# Altium footprint library IC_DIP.PCBLIB: 26 footprints (part 1 of 2)
Each footprint in its own frame and in the unit in brackets; x right, y up, seen from the top. Pads: shape width x height; smd on the part's side, far side on the other; paste and mask are expansions set on the pad; w line width, h text height; cw(c..) or ccw(c..) is an arc to the next point about the centre after c.
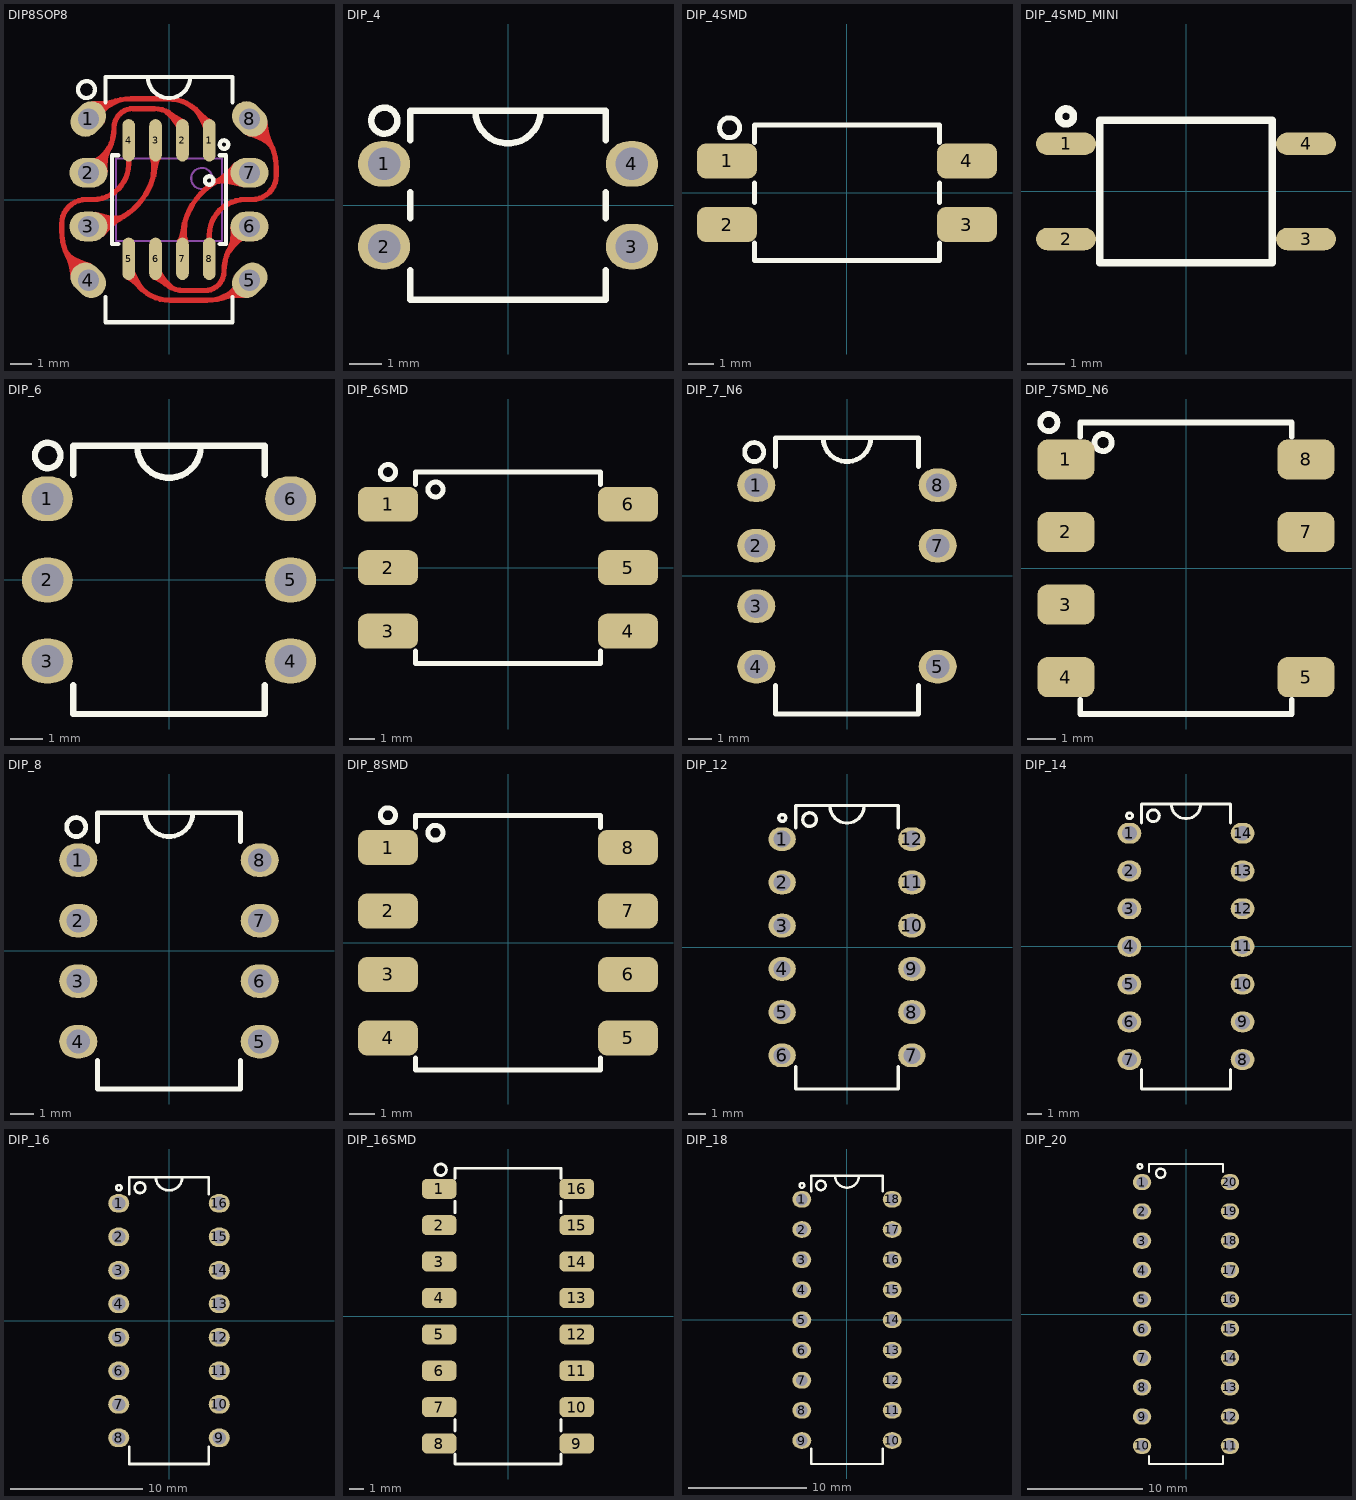
[diagram p0: the footprints below, top view; thin cyan lines are the x and y axes]

## DIP8SOP8 [mm] "DIP, 8-Leads, 0.300\" lead span , 0.100\" lead pitch"
height 5.334
pads (16):
  oval 1.4x1.8 / inner round 1.4 / far side oval 1.4x1.8 hole 1 rot 135: 1(-3.81,3.81) 5(3.81,-3.81)
  oval 0.6x2 smd: 1(1.905,2.8) 2(0.635,2.8) 3(-0.635,2.8) 4(-1.905,2.8) 5(-1.905,-2.8) 6(-0.635,-2.8) 7(0.635,-2.8) 8(1.905,-2.8)
  oval 1.8x1.4 / inner round 1.4 / far side oval 1.8x1.4 hole 1: 2(-3.81,1.27) 3(-3.81,-1.27) 6(3.81,-1.27) 7(3.81,1.27)
  oval 1.4x1.8 / inner round 1.4 / far side oval 1.4x1.8 hole 1 rot 45: 4(-3.81,-3.81) 8(3.81,3.81)
TopLayer:
  region: -2.357,4.571 -2.545,4.485 -2.708,4.397 -2.843,4.306 -2.953,4.213 -3.035,4.118 -3.092,4.021 -3.122,3.921 -3.126,3.82 -3.103,3.716 -3.054,3.61 -3.659,4.652 -3.528,4.641 -3.278,4.636 -3.159,4.642 -2.932,4.669 -2.825,4.69 -2.721,4.717 -2.621,4.749 -2.524,4.786
  region: -2.699,2.394 -2.75,2.31 -2.794,2.22 -2.831,2.123 -2.861,2.02 -2.885,1.911 -2.902,1.796 -2.911,1.674 -2.914,1.545 -2.9,1.27 -4.04,1.963 -3.934,1.911 -3.826,1.883 -3.716,1.879 -3.605,1.9 -3.493,1.944 -3.379,2.014 -3.264,2.107 -3.148,2.225 -3.03,2.367 -2.91,2.533
  region: -2.209,-0.98 -2.288,-1.018 -2.369,-1.065 -2.453,-1.121 -2.539,-1.186 -2.718,-1.343 -2.811,-1.435 -3.105,-1.765 -3.463,-0.583 -3.29,-0.633 -2.842,-0.736 -2.716,-0.754 -2.601,-0.764 -2.499,-0.765 -2.408,-0.759 -2.329,-0.745 -2.261,-0.722
  region: -4.742,-2.464 -4.697,-2.522 -4.638,-2.579 -4.566,-2.636 -4.479,-2.693 -4.379,-2.749 -4.266,-2.805 -3.997,-2.914 -3.673,-3.022 -4.628,-3.805 -4.646,-3.647 -4.715,-3.228 -4.744,-3.108 -4.811,-2.895 -4.848,-2.803 -4.889,-2.721 -4.932,-2.648
  region: 4.742,2.464 4.697,2.522 4.638,2.579 4.566,2.636 4.479,2.693 4.379,2.749 4.266,2.805 3.997,2.914 3.673,3.022 4.628,3.805 4.646,3.647 4.715,3.228 4.744,3.108 4.811,2.895 4.848,2.803 4.889,2.721 4.932,2.648
  region: 2.209,0.98 2.288,1.018 2.369,1.065 2.453,1.121 2.539,1.186 2.718,1.343 2.811,1.435 3.105,1.765 3.463,0.583 3.29,0.633 2.842,0.736 2.716,0.754 2.601,0.764 2.499,0.765 2.408,0.759 2.329,0.745 2.261,0.722
  region: 2.699,-2.394 2.75,-2.31 2.794,-2.22 2.831,-2.123 2.861,-2.02 2.885,-1.911 2.902,-1.796 2.911,-1.674 2.914,-1.545 2.9,-1.27 4.04,-1.963 3.934,-1.911 3.826,-1.883 3.716,-1.879 3.605,-1.9 3.493,-1.944 3.379,-2.014 3.264,-2.107 3.148,-2.225 3.03,-2.367 2.91,-2.533
  region: 2.357,-4.571 2.545,-4.485 2.708,-4.397 2.843,-4.306 2.953,-4.213 3.035,-4.118 3.092,-4.021 3.122,-3.921 3.126,-3.82 3.103,-3.716 3.054,-3.61 3.659,-4.652 3.528,-4.641 3.278,-4.636 3.159,-4.642 2.932,-4.669 2.825,-4.69 2.721,-4.717 2.621,-4.749 2.524,-4.786
  region: 1.329,4.36 1.399,4.274 1.542,4.119 1.614,4.05 1.759,3.93 1.833,3.878 1.906,3.833 1.98,3.793 2.055,3.759 1.609,2.601 1.651,2.739 1.675,2.881 1.679,3.027 1.665,3.178 1.631,3.332 1.578,3.49 1.505,3.653 1.414,3.819 1.303,3.989 1.173,4.164
  region: -0.037,4.266 0.039,4.203 0.276,4.03 0.357,3.978 0.61,3.839 0.697,3.798 0.785,3.759 0.339,2.794 0.382,2.912 0.403,3.031 0.403,3.153 0.381,3.277 0.338,3.404 0.273,3.532 0.186,3.663 0.078,3.796 -0.052,3.931 -0.203,4.068
  region: -0.871,1.091 -0.855,1.206 -0.838,1.421 -0.836,1.521 -0.847,1.708 -0.859,1.794 -0.876,1.875 -0.898,1.951 -0.924,2.022 -0.376,1.95 -0.402,1.911 -0.427,1.861 -0.452,1.8 -0.477,1.73 -0.524,1.557 -0.57,1.344 -0.613,1.089
  region: 0.871,-1.091 0.855,-1.206 0.838,-1.421 0.836,-1.521 0.847,-1.708 0.859,-1.794 0.876,-1.875 0.898,-1.951 0.924,-2.022 0.376,-1.95 0.402,-1.911 0.427,-1.861 0.452,-1.8 0.477,-1.73 0.524,-1.557 0.57,-1.344 0.613,-1.089
  region: 0.037,-4.266 -0.039,-4.203 -0.276,-4.03 -0.357,-3.978 -0.61,-3.839 -0.697,-3.798 -0.785,-3.759 -0.339,-2.794 -0.382,-2.912 -0.403,-3.031 -0.403,-3.153 -0.381,-3.277 -0.338,-3.404 -0.273,-3.532 -0.186,-3.663 -0.078,-3.796 0.052,-3.931 0.203,-4.068
  region: -1.329,-4.36 -1.399,-4.274 -1.542,-4.119 -1.614,-4.05 -1.759,-3.93 -1.833,-3.878 -1.906,-3.833 -1.98,-3.793 -2.055,-3.759 -1.609,-2.601 -1.651,-2.739 -1.675,-2.881 -1.679,-3.027 -1.665,-3.178 -1.631,-3.332 -1.578,-3.49 -1.505,-3.653 -1.414,-3.819 -1.303,-3.989 -1.173,-4.164
  lines w0.25: -3.81,-1.27 ccw(c-3.81,1.905) -0.635,1.905 -0.635,2.8 ; -3.8,-3.81 -4.331,-3.279 cw(c-2.535,-1.483) -5.075,-1.483 -5.075,-1.149 cw(c-3.926,-1.149) -3.926,0 -3.598,0 ccw(c-3.598,1.693) -1.905,1.693 -1.905,2.8 ; -3.8,1.27 -3.257,1.813 ccw(c-4.845,3.4) -2.6,3.4 cw(c-1.7,3.4) -1.7,4.3 -0.7,4.3 cw(c-0.7,2.965) 0.635,2.965 0.635,2.8 ; -3.8,3.81 -3.59,4.02 cw(c-1.8,2.231) -1.8,4.762 -0.057,4.762 cw(c-0.057,2.8) 1.905,2.8 ; -1.905,-2.8 ccw(c0.057,-2.8) 0.057,-4.762 1.8,-4.762 ccw(c1.8,-2.231) 3.59,-4.02 3.8,-3.81 ; -0.635,-2.8 -0.635,-2.965 ccw(c0.7,-2.965) 0.7,-4.3 1.7,-4.3 ccw(c1.7,-3.4) 2.6,-3.4 cw(c4.845,-3.4) 3.257,-1.813 3.8,-1.27 ; 0.635,-2.8 0.635,-1.905 ; 1.905,-2.8 1.905,-1.693 cw(c3.598,-1.693) 3.598,0 3.926,0 ; 3.8,3.81 4.331,3.279 cw(c2.535,1.483) 5.075,1.483 5.075,1.149 cw(c3.926,1.149) 3.926,0 ; 3.81,1.27 ccw(c3.81,-1.905) 0.635,-1.905 ; 0.635,-1.905 0.635,-1.905 ; 3.926,0 3.926,0
TopOverlay:
  circle w0.2: c-3.9,5.2 r0.4
  circle w0.2: c1.9,0.9 r0.2
  circle w0.2: c2.6,2.6 r0.2
  lines w0.2: -3,-4.6 -3,-5.8 3,-5.8 3,-4.6 ; -3,4.6 -3,5.8 3,5.8 3,4.6 ; -2.4,-2.1 -2.7,-2.1 -2.7,2.1 -2.4,2.1 ; -1,5.8 ccw(c0,5.8) 1,5.8 ; 2.4,-2.1 2.7,-2.1 2.7,2.1 2.4,2.1
Mechanical13:
  circle w0.1: c1.55,1 r0.5
  lines w0.1: -2.5,-1.95 2.5,-1.95 2.5,1.95 -2.5,1.95 -2.5,-1.95
3D body "CircuitWorks-DIP8.step": height 4.19, standoff -2.67, extent -3.937,-5.7 3.937,5.73
3D body "User Library-so8-3.step": height 1.7, standoff 0, extent -2.45,-3 2.45,3

## DIP_4 [mm] "BRIDGE DIODE, DIP, pitch 2.54mm, 300mil Width"
pads (4):
  oval 1.6x1.4 / inner round 1.4 / far side oval 2.2x1.4 hole 1: 1(-3.81,1.27) 2(-3.81,-1.27) 3(3.81,-1.27) 4(3.81,1.27)
TopOverlay:
  circle w0.2: c-3.8,2.6 r0.4
  lines w0.2: -3,-2 -3,-2.9 3,-2.9 3,-2 ; -3,-0.4 -3,0.4 ; -3,2 -3,2.9 3,2.9 3,2 ; -1,2.9 ccw(c0,2.9) 1,2.9 ; 3,-0.4 3,0.4
3D body "CircuitWorks-DIP4.step": height 4.31, standoff -3.28, extent -4,-2.77 4,2.77

## DIP_4SMD [mm] "DIP4, pitch 2.54mm, 300mil Width SMD"
pads (4):
  rrect50% 2.4x1.4 smd: 1(-4.8,1.27) 2(-4.8,-1.27) 3(4.8,-1.27) 4(4.8,1.27)
TopOverlay:
  circle w0.2: c-4.7,2.6 r0.4
  lines w0.2: -3.7,-2 -3.7,-2.7 3.7,-2.7 3.7,-2 ; -3.7,-0.4 -3.7,0.4 ; -3.7,2 -3.7,2.7 3.7,2.7 3.7,2 ; 3.7,-0.4 3.7,0.4
3D body "User Library-FOD817.step": height 4.6, standoff 0, extent -5.23,-2.55 5.23,2.55

## DIP_4SMD_MINI [mm] "SMD MINI FLAT, HCPL-181, pitch:2.54mm, 4.4x3.6mm"
height 3
pads (4):
  oval 1.6x0.6 smd: 1(-3.2,1.27) 2(-3.2,-1.27) 3(3.2,-1.27) 4(3.2,1.27)
TopOverlay:
  circle w0.2: c-3.2,2 r0.2
  lines w0.2: -2.3,-1.9 2.3,-1.9 2.3,1.9 -2.3,1.9 -2.3,-1.9
3D body "User Library-HCPL-181-1.STEP": height 2.1, standoff 0, extent -3.5,-1.8 3.5,1.8

## DIP_6 [mm] "DIP, pitch 2.54mm, 300mil Width"
pads (6):
  oval 1.6x1.4 / inner round 1.4 / far side oval 2.2x1.4 hole 1: 1(-3.81,2.54) 2(-3.81,0) 3(-3.81,-2.54) 4(3.81,-2.54) 5(3.81,0) 6(3.81,2.54)
TopOverlay:
  circle w0.2: c-3.8,3.9 r0.4
  lines w0.2: -3,-3.3 -3,-4.2 3,-4.2 3,-3.3 ; -3,3.3 -3,4.2 3,4.2 3,3.3 ; -1,4.2 ccw(c0,4.2) 1,4.2
3D body "CircuitWorks-DIP6.step": height 4.31, standoff -3.28, extent -4,-4.04 4,4.04

## DIP_6SMD [mm] "DIP6 SMD Package"
pads (6):
  rrect50% 2.4x1.4 smd: 1(-4.8,2.54) 2(-4.8,0) 3(-4.8,-2.54) 4(4.8,-2.54) 5(4.8,0) 6(4.8,2.54)
TopOverlay:
  circle w0.2: c-4.8,3.83 r0.3
  circle w0.2: c-2.9,3.13 r0.3
  lines w0.2: -3.7,-3.33 -3.7,-3.83 3.7,-3.83 3.7,-3.33 ; -3.7,3.33 -3.7,3.83 3.7,3.83 3.7,3.33
3D body "User Library-N06C.step": height 3.82, standoff 0, extent -4.94,-3.56 4.94,3.56

## DIP_7_N6 [mm] "DIP, pitch 2.54mm, without pin 6"
pads (7):
  oval 1.6x1.4 / inner round 1.4 / far side oval 2.2x1.4 hole 1: 1(-3.81,3.81) 2(-3.81,1.27) 3(-3.81,-1.27) 4(-3.81,-3.81) 5(3.81,-3.81) 7(3.81,1.27) 8(3.81,3.81)
TopOverlay:
  circle w0.2: c-3.9,5.2 r0.4
  lines w0.2: -3,-4.6 -3,-5.8 3,-5.8 3,-4.6 ; -3,4.6 -3,5.8 3,5.8 3,4.6 ; -1,5.8 ccw(c0,5.8) 1,5.8
3D body "CircuitWorks-DIP8_without6.step": height 4.19, standoff -2.67, extent -3.937,-5.7 3.937,5.73

## DIP_7SMD_N6 [mm] "DIP8 SMD Package, without pin 6"
pads (7):
  rrect50% 2x1.4 smd: 1(-4.2,3.81) 2(-4.2,1.27) 3(-4.2,-1.27) 4(-4.2,-3.81) 5(4.2,-3.81) 7(4.2,1.27) 8(4.2,3.81)
TopOverlay:
  circle w0.2: c-2.9,4.4 r0.3
  circle w0.2: c-4.8,5.1 r0.3
  lines w0.2: -3.7,-4.6 -3.7,-5.1 3.7,-5.1 3.7,-4.6 ; -3.7,4.6 -3.7,5.1 3.7,5.1 3.7,4.6
3D body "pdip7-smd_ncp101x.STEP": height 3.63, standoff 0, extent -4.826,-4.753 4.826,4.752

## DIP_8 [mm] "DIP, pitch 2.54mm, 300mil Width"
pads (8):
  oval 1.6x1.4 / inner round 1.4 / far side oval 2.2x1.4 hole 1: 1(-3.81,3.81) 2(-3.81,1.27) 3(-3.81,-1.27) 4(-3.81,-3.81) 5(3.81,-3.81) 6(3.81,-1.27) 7(3.81,1.27) 8(3.81,3.81)
TopOverlay:
  circle w0.2: c-3.9,5.2 r0.4
  lines w0.2: -3,-4.6 -3,-5.8 3,-5.8 3,-4.6 ; -3,4.6 -3,5.8 3,5.8 3,4.6 ; -1,5.8 ccw(c0,5.8) 1,5.8
3D body "CircuitWorks-DIP8.step": height 4.19, standoff -2.67, extent -3.937,-5.7 3.937,5.73

## DIP_8SMD [mm] "DIP8 SMD Package"
pads (8):
  rrect50% 2.4x1.4 smd: 1(-4.8,3.81) 2(-4.8,1.27) 3(-4.8,-1.27) 4(-4.8,-3.81) 5(4.8,-3.81) 6(4.8,-1.27) 7(4.8,1.27) 8(4.8,3.81)
TopOverlay:
  circle w0.2: c-4.8,5.1 r0.3
  circle w0.2: c-2.9,4.4 r0.3
  lines w0.2: -3.7,-4.6 -3.7,-5.1 3.7,-5.1 3.7,-4.6 ; -3.7,4.6 -3.7,5.1 3.7,5.1 3.7,4.6
3D body "SW3dPS-pdip8-smd.STEP": height 5.08, standoff 0, extent -5.15,-4.955 5.15,4.955

## DIP_12 [mm] "DIP, pitch 2.54mm, 300mil Width"
pads (12):
  oval 1.6x1.4 / inner round 1.4 / far side oval 2.2x1.4 hole 1: 1(-3.81,6.35) 2(-3.81,3.81) 3(-3.81,1.27) 4(-3.81,-1.27) 5(-3.81,-3.81) 6(-3.81,-6.35) 7(3.81,-6.35) 8(3.81,-3.81) 9(3.81,-1.27) 10(3.81,1.27) 11(3.81,3.81) 12(3.81,6.35)
TopOverlay:
  circle w0.2: c-2.2,7.5 r0.4
  circle w0.2: c-3.8,7.6 r0.2
  lines w0.2: -3,-7.03 -3,-8.33 3,-8.33 3,-7.03 ; -3,7.03 -3,8.33 3,8.33 3,7.03 ; -1,8.3 ccw(c0,8.3) 1,8.3

## DIP_14 [mm] "DIP, pitch 2.54mm, 300mil Width"
pads (14):
  oval 1.6x1.4 / inner round 1.4 / far side oval 2.2x1.4 hole 1: 1(-3.81,7.62) 2(-3.81,5.08) 3(-3.81,2.54) 4(-3.81,0) 5(-3.81,-2.54) 6(-3.81,-5.08) 7(-3.81,-7.62) 8(3.81,-7.62) 9(3.81,-5.08) 10(3.81,-2.54) 11(3.81,0) 12(3.81,2.54) 13(3.81,5.08) 14(3.81,7.62)
TopOverlay:
  circle w0.2: c-3.8,8.8 r0.2
  circle w0.2: c-2.2,8.8 r0.4
  lines w0.2: -3,-8.3 -3,-9.6 3,-9.6 3,-8.3 ; -3,8.3 -3,9.6 3,9.6 3,8.3 ; -1,9.6 ccw(c0,9.6) 1,9.6
3D body "CircuitWorks-DIP-14.step": height 3.81, standoff -3.17, extent -4,-9.525 4,9.525

## DIP_16 [mm] "DIP, pitch 2.54mm, 300mil Width"
pads (16):
  oval 1.6x1.4 / inner round 1.4 / far side oval 2.2x1.4 hole 1: 1(-3.81,8.89) 2(-3.81,6.35) 3(-3.81,3.81) 4(-3.81,1.27) 5(-3.81,-1.27) 6(-3.81,-3.81) 7(-3.81,-6.35) 8(-3.81,-8.89) 9(3.81,-8.89) 10(3.81,-6.35) 11(3.81,-3.81) 12(3.81,-1.27) 13(3.81,1.27) 14(3.81,3.81) 15(3.81,6.35) 16(3.81,8.89)
TopOverlay:
  circle w0.2: c-3.8,10.07 r0.2
  circle w0.2: c-2.2,10.07 r0.4
  lines w0.2: -3,-9.57 -3,-10.87 3,-10.87 3,-9.57 ; -3,9.57 -3,10.87 3,10.87 3,9.57 ; -1,10.87 ccw(c0,10.87) 1,10.87
3D body "CircuitWorks-DIP 16 IC.step": height 5.1, standoff -3.3, extent -3.935,-10 3.935,10

## DIP_16SMD [mm] "DIP4, pitch 2.54mm, 300mil Width SMD"
pads (16):
  rrect50% 2.4x1.4 smd: 1(-4.8,8.89) 2(-4.8,6.35) 3(-4.8,3.81) 4(-4.8,1.27) 5(-4.8,-1.27) 6(-4.8,-3.81) 7(-4.8,-6.35) 8(-4.8,-8.89) 9(4.8,-8.89) 10(4.8,-6.35) 11(4.8,-3.81) 12(4.8,-1.27) 13(4.8,1.27) 14(4.8,3.81) 15(4.8,6.35) 16(4.8,8.89)
TopOverlay:
  circle w0.2: c-4.7,10.22 r0.4
  lines w0.2: -3.7,-9.62 -3.7,-10.32 3.7,-10.32 3.7,-9.62 ; -3.7,-8.02 -3.7,-7.22 ; -3.7,7.22 -3.7,8.02 ; -3.7,9.62 -3.7,10.32 3.7,10.32 3.7,9.62 ; 3.7,-8.02 3.7,-7.22 ; 3.7,7.22 3.7,8.02
3D body "User Library-FOD817.step": height 4.6, standoff 0, extent -5.23,5.07 5.23,10.17
3D body "User Library-FOD817.step": height 4.6, standoff 0, extent -5.23,-0.01 5.23,5.09
3D body "User Library-FOD817.step": height 4.6, standoff 0, extent -5.23,-5.09 5.23,0.01
3D body "User Library-FOD817.step": height 4.6, standoff 0, extent -5.23,-10.17 5.23,-5.07

## DIP_18 [mm] "DIP, pitch 2.54mm, 300mil Width"
pads (18):
  oval 1.6x1.4 / inner round 1.4 / far side oval 2.2x1.4 hole 1: 1(-3.81,10.16) 2(-3.81,7.62) 3(-3.81,5.08) 4(-3.81,2.54) 5(-3.81,0) 6(-3.81,-2.54) 7(-3.81,-5.08) 8(-3.81,-7.62) 9(-3.81,-10.16) 10(3.81,-10.16) 11(3.81,-7.62) 12(3.81,-5.08) 13(3.81,-2.54) 14(3.81,0) 15(3.81,2.54) 16(3.81,5.08) 17(3.81,7.62) 18(3.81,10.16)
TopOverlay:
  circle w0.2: c-2.2,11.34 r0.4
  circle w0.2: c-3.8,11.34 r0.2
  lines w0.2: -3,-10.84 -3,-12.14 3,-12.14 3,-10.84 ; -3,10.84 -3,12.14 3,12.14 3,10.84 ; -1,12.14 ccw(c0,12.14) 1,12.14
3D body "User Library-DIP18-300.step": height 5.08, standoff -2.49, extent -3.935,-11.495 3.935,11.495

## DIP_20 [mm] "DIP, pitch 2.54mm, 300mil Width"
pads (20):
  oval 1.6x1.4 / inner round 1.4 / far side oval 2.2x1.4 hole 1: 1(-3.81,11.43) 2(-3.81,8.89) 3(-3.81,6.35) 4(-3.81,3.81) 5(-3.81,1.27) 6(-3.81,-1.27) 7(-3.81,-3.81) 8(-3.81,-6.35) 9(-3.81,-8.89) 10(-3.81,-11.43) 11(3.81,-11.43) 12(3.81,-8.89) 13(3.81,-6.35) 14(3.81,-3.81) 15(3.81,-1.27) 16(3.81,1.27) 17(3.81,3.81) 18(3.81,6.35) 19(3.81,8.89) 20(3.81,11.43)
TopOverlay:
  circle w0.2: c-4,12.8 r0.2
  circle w0.2: c-2.2,12.2 r0.4
  lines w0.2: -3.2,-12.3 -3.2,-13 3.2,-13 3.2,-12.3 ; -3.2,12.3 -3.2,13 3.2,13 3.2,12.3
3D body "User Library-20 pin dip.step": height 5.05, standoff -1.17, extent -3.937,-12.89 3.937,12.891